# EAGLE library part OSD3358-512M-BCB (library Octavo-Systems OSD3552)
Octavo Systems LLC OSD335x Family SiP: 27mm x 27mm, 1.27mm pitch 400 pin BGA contains AM3358, 512MB DDR3, TPS65217, TL5209, 4KB EEPROM, 4GB eMMC, 24MHz oscillator, and passives. Commerical Temperature (case): 0C to 85C.
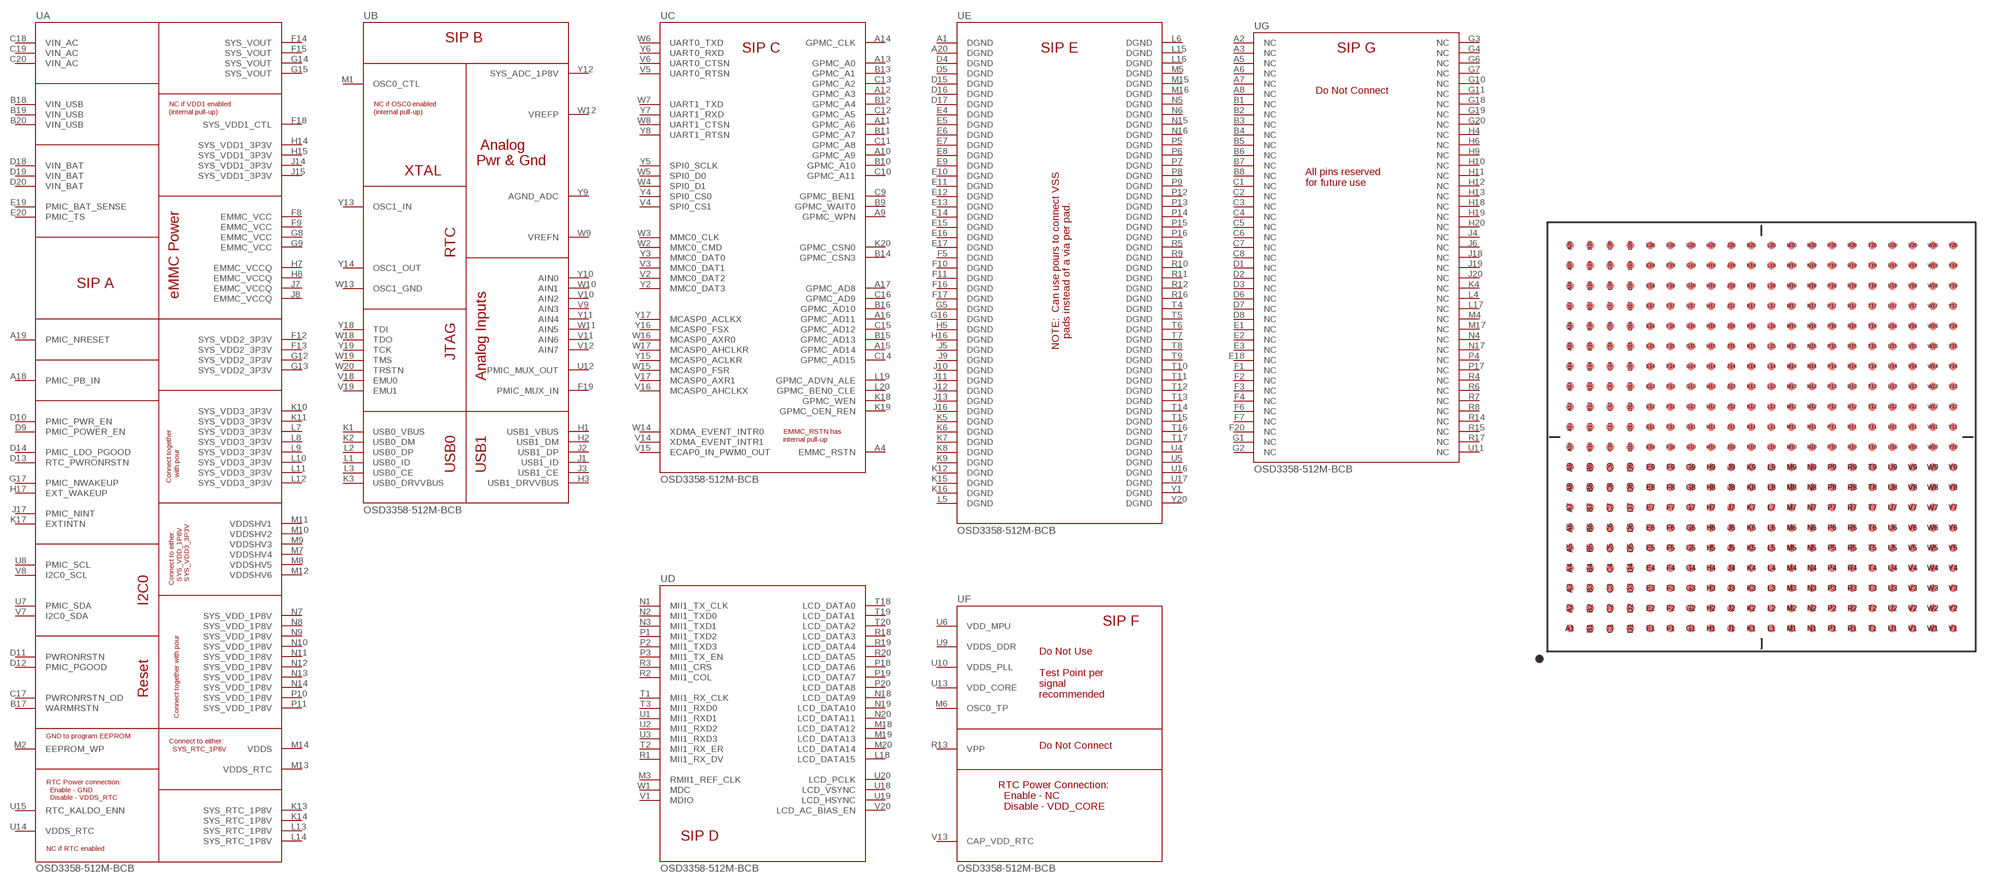
[diagram p2: symbol with the pads of OSD335X-BGA-400; footprint OSD335X-BGA-400]

Designator prefix U; gates A=OSD335X-CSIP-LOGICAL-A B=OSD335X-CSIP-LOGICAL-B C=OSD335X-CSIP-LOGICAL-C D=OSD335X-CSIP-LOGICAL-D F=OSD335X-CSIP-LOGICAL-F G=OSD335X-CSIP-LOGICAL-G E=OSD335X-CSIP-LOGICAL-E

## OSD3358-512M-BCB  [OSD335X-BGA-400]
A1  E:DGND
A2  G:NC
A3  G:NC
A4  C:EMMC_RSTN
A5  G:NC
A6  G:NC
A7  G:NC
A8  G:NC
A9  C:GPMC_WPN
A10  C:GPMC_A9
A11  C:GPMC_A6
A12  C:GPMC_A3
A13  C:GPMC_A0
A14  C:GPMC_CLK
A15  C:GPMC_AD14
A16  C:GPMC_AD11
A17  C:GPMC_AD8
A18  A:PMIC_PB_IN
A19  A:PMIC_NRESET
A20  E:DGND
B1  G:NC
B2  G:NC
B3  G:NC
B4  G:NC
B5  G:NC
B6  G:NC
B7  G:NC
B8  G:NC
B9  C:GPMC_WAIT0
B10  C:GPMC_A10
B11  C:GPMC_A7
B12  C:GPMC_A4
B13  C:GPMC_A1
B14  C:GPMC_CSN3
B15  C:GPMC_AD13
B16  C:GPMC_AD10
B17  A:WARMRSTN
B18  A:VIN_USB  pwr
B19  A:VIN_USB  pwr
B20  A:VIN_USB  pwr
C1  G:NC
C2  G:NC
C3  G:NC
C4  G:NC
C5  G:NC
C6  G:NC
C7  G:NC
C8  G:NC
C9  C:GPMC_BEN1
C10  C:GPMC_A11
C11  C:GPMC_A8
C12  C:GPMC_A5
C13  C:GPMC_A2
C14  C:GPMC_AD15
C15  C:GPMC_AD12
C16  C:GPMC_AD9
C17  A:PWRONRSTN_OD
C18  A:VIN_AC  pwr
C19  A:VIN_AC  pwr
C20  A:VIN_AC  pwr
D1  G:NC
D2  G:NC
D3  G:NC
D4  E:DGND
D5  E:DGND
D6  G:NC
D7  G:NC
D8  G:NC
D9  A:PMIC_POWER_EN  out
D10  A:PMIC_PWR_EN  in
D11  A:PWRONRSTN
D12  A:PMIC_PGOOD  out
D13  A:RTC_PWRONRSTN
D14  A:PMIC_LDO_PGOOD  out
D15  E:DGND
D16  E:DGND
D17  E:DGND
D18  A:VIN_BAT  pwr
D19  A:VIN_BAT  pwr
D20  A:VIN_BAT  pwr
E1  G:NC
E2  G:NC
E3  G:NC
E4  E:DGND
E5  E:DGND
E6  E:DGND
E7  E:DGND
E8  E:DGND
E9  E:DGND
E10  E:DGND
E11  E:DGND
E12  E:DGND
E13  E:DGND
E14  E:DGND
E15  E:DGND
E16  E:DGND
E17  E:DGND
E18  G:NC
E19  A:PMIC_BAT_SENSE
E20  A:PMIC_TS
F1  G:NC
F2  G:NC
F3  G:NC
F4  G:NC
F5  E:DGND
F6  G:NC
F7  G:NC
F8  A:EMMC_VCC
F9  A:EMMC_VCC
F10  E:DGND
F11  E:DGND
F12  A:SYS_VDD2_3P3V  pwr
F13  A:SYS_VDD2_3P3V  pwr
F14  A:SYS_VOUT  pwr
F15  A:SYS_VOUT  pwr
F16  E:DGND
F17  E:DGND
F18  A:SYS_VDD1_CTL
F19  B:PMIC_MUX_IN
F20  G:NC
G1  G:NC
G2  G:NC
G3  G:NC
G4  G:NC
G5  E:DGND
G6  G:NC
G7  G:NC
G8  A:EMMC_VCC
G9  A:EMMC_VCC
G10  G:NC
G11  G:NC
G12  A:SYS_VDD2_3P3V  pwr
G13  A:SYS_VDD2_3P3V  pwr
G14  A:SYS_VOUT  pwr
G15  A:SYS_VOUT  pwr
G16  E:DGND
G17  A:PMIC_NWAKEUP  out
G18  G:NC
G19  G:NC
G20  G:NC
H1  B:USB1_VBUS
H2  B:USB1_DM
H3  B:USB1_DRVVBUS
H4  G:NC
H5  E:DGND
H6  G:NC
H7  A:EMMC_VCCQ
H8  A:EMMC_VCCQ
H9  G:NC
H10  G:NC
H11  G:NC
H12  G:NC
H13  G:NC
H14  A:SYS_VDD1_3P3V  pwr
H15  A:SYS_VDD1_3P3V  pwr
H16  E:DGND
H17  A:EXT_WAKEUP
H18  G:NC
H19  G:NC
H20  G:NC
J1  B:USB1_ID
J2  B:USB1_DP
J3  B:USB1_CE
J4  G:NC
J5  E:DGND
J6  G:NC
J7  A:EMMC_VCCQ
J8  A:EMMC_VCCQ
J9  E:DGND
J10  E:DGND
J11  E:DGND
J12  E:DGND
J13  E:DGND
J14  A:SYS_VDD1_3P3V  pwr
J15  A:SYS_VDD1_3P3V  pwr
J16  E:DGND
J17  A:PMIC_NINT  out
J18  G:NC
J19  G:NC
J20  G:NC
K1  B:USB0_VBUS
K2  B:USB0_DM
K3  B:USB0_DRVVBUS
K4  G:NC
K5  E:DGND
K6  E:DGND
K7  E:DGND
K8  E:DGND
K9  E:DGND
K10  A:SYS_VDD3_3P3V  pwr
K11  A:SYS_VDD3_3P3V  pwr
K12  E:DGND
K13  A:SYS_RTC_1P8V  pwr
K14  A:SYS_RTC_1P8V  pwr
K15  E:DGND
K16  E:DGND
K17  A:EXTINTN
K18  C:GPMC_WEN
K19  C:GPMC_OEN_REN
K20  C:GPMC_CSN0
L1  B:USB0_ID
L2  B:USB0_DP
L3  B:USB0_CE
L4  G:NC
L5  E:DGND
L6  E:DGND
L7  A:SYS_VDD3_3P3V  pwr
L8  A:SYS_VDD3_3P3V  pwr
L9  A:SYS_VDD3_3P3V  pwr
L10  A:SYS_VDD3_3P3V  pwr
L11  A:SYS_VDD3_3P3V  pwr
L12  A:SYS_VDD3_3P3V  pwr
L13  A:SYS_RTC_1P8V  pwr
L14  A:SYS_RTC_1P8V  pwr
L15  E:DGND
L16  E:DGND
L17  G:NC
L18  D:LCD_DATA15
L19  C:GPMC_ADVN_ALE
L20  C:GPMC_BEN0_CLE
M1  B:OSC0_CTL
M2  A:EEPROM_WP
M3  D:RMII1_REF_CLK
M4  G:NC
M5  E:DGND
M6  F:OSC0_TP  out
M7  A:VDDSHV4  pwr
M8  A:VDDSHV5  pwr
M9  A:VDDSHV3  pwr
M10  A:VDDSHV2  pwr
M11  A:VDDSHV1  pwr
M12  A:VDDSHV6  pwr
M13  A:VDDS_RTC
M14  A:VDDS
M15  E:DGND
M16  E:DGND
M17  G:NC
M18  D:LCD_DATA12
M19  D:LCD_DATA13
M20  D:LCD_DATA14
N1  D:MII1_TX_CLK
N2  D:MII1_TXD0
N3  D:MII1_TXD1
N4  G:NC
N5  E:DGND
N6  E:DGND
N7  A:SYS_VDD_1P8V  pwr
N8  A:SYS_VDD_1P8V  pwr
N9  A:SYS_VDD_1P8V  pwr
N10  A:SYS_VDD_1P8V  pwr
N11  A:SYS_VDD_1P8V  pwr
N12  A:SYS_VDD_1P8V  pwr
N13  A:SYS_VDD_1P8V  pwr
N14  A:SYS_VDD_1P8V  pwr
N15  E:DGND
N16  E:DGND
N17  G:NC
N18  D:LCD_DATA9
N19  D:LCD_DATA10
N20  D:LCD_DATA11
P1  D:MII1_TXD2
P2  D:MII1_TXD3
P3  D:MII1_TX_EN
P4  G:NC
P5  E:DGND
P6  E:DGND
P7  E:DGND
P8  E:DGND
P9  E:DGND
P10  A:SYS_VDD_1P8V  pwr
P11  A:SYS_VDD_1P8V  pwr
P12  E:DGND
P13  E:DGND
P14  E:DGND
P15  E:DGND
P16  E:DGND
P17  G:NC
P18  D:LCD_DATA6
P19  D:LCD_DATA7
P20  D:LCD_DATA8
R1  D:MII1_RX_DV
R2  D:MII1_COL
R3  D:MII1_CRS
R4  G:NC
R5  E:DGND
R6  G:NC
R7  G:NC
R8  G:NC
R9  E:DGND
R10  E:DGND
R11  E:DGND
R12  E:DGND
R13  F:VPP
R14  G:NC
R15  G:NC
R16  E:DGND
R17  G:NC
R18  D:LCD_DATA3
R19  D:LCD_DATA4
R20  D:LCD_DATA5
T1  D:MII1_RX_CLK
T2  D:MII1_RX_ER
T3  D:MII1_RXD0
T4  E:DGND
T5  E:DGND
T6  E:DGND
T7  E:DGND
T8  E:DGND
T9  E:DGND
T10  E:DGND
T11  E:DGND
T12  E:DGND
T13  E:DGND
T14  E:DGND
T15  E:DGND
T16  E:DGND
T17  E:DGND
T18  D:LCD_DATA0
T19  D:LCD_DATA1
T20  D:LCD_DATA2
U1  D:MII1_RXD1
U2  D:MII1_RXD2
U3  D:MII1_RXD3
U4  E:DGND
U5  E:DGND
U6  F:VDD_MPU  out
U7  A:PMIC_SDA
U8  A:PMIC_SCL
U9  F:VDDS_DDR  out
U10  F:VDDS_PLL  out
U11  G:NC
U12  B:PMIC_MUX_OUT
U13  F:VDD_CORE  out
U14  A:VDDS_RTC
U15  A:RTC_KALDO_ENN
U16  E:DGND
U17  E:DGND
U18  D:LCD_VSYNC
U19  D:LCD_HSYNC
U20  D:LCD_PCLK
V1  D:MDIO
V2  C:MMC0_DAT2
V3  C:MMC0_DAT1
V4  C:SPI0_CS1
V5  C:UART0_RTSN
V6  C:UART0_CTSN
V7  A:I2C0_SDA
V8  A:I2C0_SCL
V9  B:AIN3
V10  B:AIN2
V11  B:AIN6
V12  B:AIN7
V13  F:CAP_VDD_RTC
V14  C:XDMA_EVENT_INTR1
V15  C:ECAP0_IN_PWM0_OUT
V16  C:MCASP0_AHCLKX
V17  C:MCASP0_AXR1
V18  B:EMU0
V19  B:EMU1
V20  D:LCD_AC_BIAS_EN
W1  D:MDC
W2  C:MMC0_CMD
W3  C:MMC0_CLK
W4  C:SPI0_D1
W5  C:SPI0_D0
W6  C:UART0_TXD
W7  C:UART1_TXD
W8  C:UART1_CTSN
W9  B:VREFN
W10  B:AIN1
W11  B:AIN5
W12  B:VREFP
W13  B:OSC1_GND
W14  C:XDMA_EVENT_INTR0
W15  C:MCASP0_FSR
W16  C:MCASP0_AXR0
W17  C:MCASP0_AHCLKR
W18  B:TDO
W19  B:TMS
W20  B:TRSTN
Y1  E:DGND
Y2  C:MMC0_DAT3
Y3  C:MMC0_DAT0
Y4  C:SPI0_CS0
Y5  C:SPI0_SCLK
Y6  C:UART0_RXD
Y7  C:UART1_RXD
Y8  C:UART1_RTSN
Y9  B:AGND_ADC
Y10  B:AIN0
Y11  B:AIN4
Y12  B:SYS_ADC_1P8V
Y13  B:OSC1_IN
Y14  B:OSC1_OUT
Y15  C:MCASP0_ACLKR
Y16  C:MCASP0_FSX
Y17  C:MCASP0_ACLKX
Y18  B:TDI
Y19  B:TCK
Y20  E:DGND

## Footprint OSD335X-BGA-400 (pad centres in mm)
smd 0.5 x 0.5: A1 -12.065,-12.065; A2 -12.065,-10.795; A3 -12.065,-9.525; A4 -12.065,-8.255; A5 -12.065,-6.985; A6 -12.065,-5.715; A7 -12.065,-4.445; A8 -12.065,-3.175; A9 -12.065,-1.905; A10 -12.065,-0.635; A11 -12.065,0.635; A12 -12.065,1.905; A13 -12.065,3.175; A14 -12.065,4.445; A15 -12.065,5.715; A16 -12.065,6.985; A17 -12.065,8.255; A18 -12.065,9.525; A19 -12.065,10.795; A20 -12.065,12.065; B1 -10.795,-12.065; B2 -10.795,-10.795; B3 -10.795,-9.525; B4 -10.795,-8.255; B5 -10.795,-6.985; B6 -10.795,-5.715; B7 -10.795,-4.445; B8 -10.795,-3.175; B9 -10.795,-1.905; B10 -10.795,-0.635; B11 -10.795,0.635; B12 -10.795,1.905; B13 -10.795,3.175; B14 -10.795,4.445; B15 -10.795,5.715; B16 -10.795,6.985; B17 -10.795,8.255; B18 -10.795,9.525; B19 -10.795,10.795; B20 -10.795,12.065; C1 -9.525,-12.065; C2 -9.525,-10.795; C3 -9.525,-9.525; C4 -9.525,-8.255; C5 -9.525,-6.985; C6 -9.525,-5.715; C7 -9.525,-4.445; C8 -9.525,-3.175; C9 -9.525,-1.905; C10 -9.525,-0.635; C11 -9.525,0.635; C12 -9.525,1.905; C13 -9.525,3.175; C14 -9.525,4.445; C15 -9.525,5.715; C16 -9.525,6.985; C17 -9.525,8.255; C18 -9.525,9.525; C19 -9.525,10.795; C20 -9.525,12.065; D1 -8.255,-12.065; D2 -8.255,-10.795; D3 -8.255,-9.525; D4 -8.255,-8.255; D5 -8.255,-6.985; D6 -8.255,-5.715; D7 -8.255,-4.445; D8 -8.255,-3.175; D9 -8.255,-1.905; D10 -8.255,-0.635; D11 -8.255,0.635; D12 -8.255,1.905; D13 -8.255,3.175; D14 -8.255,4.445; D15 -8.255,5.715; D16 -8.255,6.985; D17 -8.255,8.255; D18 -8.255,9.525; D19 -8.255,10.795; D20 -8.255,12.065; E1 -6.985,-12.065; E2 -6.985,-10.795; E3 -6.985,-9.525; E4 -6.985,-8.255; E5 -6.985,-6.985; E6 -6.985,-5.715; E7 -6.985,-4.445; E8 -6.985,-3.175; E9 -6.985,-1.905; E10 -6.985,-0.635; E11 -6.985,0.635; E12 -6.985,1.905; E13 -6.985,3.175; E14 -6.985,4.445; E15 -6.985,5.715; E16 -6.985,6.985; E17 -6.985,8.255; E18 -6.985,9.525; E19 -6.985,10.795; E20 -6.985,12.065; F1 -5.715,-12.065; F2 -5.715,-10.795; F3 -5.715,-9.525; F4 -5.715,-8.255; F5 -5.715,-6.985; F6 -5.715,-5.715; F7 -5.715,-4.445; F8 -5.715,-3.175; F9 -5.715,-1.905; F10 -5.715,-0.635; F11 -5.715,0.635; F12 -5.715,1.905; F13 -5.715,3.175; F14 -5.715,4.445; F15 -5.715,5.715; F16 -5.715,6.985; F17 -5.715,8.255; F18 -5.715,9.525; F19 -5.715,10.795; F20 -5.715,12.065; G1 -4.445,-12.065; G2 -4.445,-10.795; G3 -4.445,-9.525; G4 -4.445,-8.255; G5 -4.445,-6.985; G6 -4.445,-5.715; G7 -4.445,-4.445; G8 -4.445,-3.175; G9 -4.445,-1.905; G10 -4.445,-0.635; G11 -4.445,0.635; G12 -4.445,1.905; G13 -4.445,3.175; G14 -4.445,4.445; G15 -4.445,5.715; G16 -4.445,6.985; G17 -4.445,8.255; G18 -4.445,9.525; G19 -4.445,10.795; G20 -4.445,12.065; H1 -3.175,-12.065; H2 -3.175,-10.795; H3 -3.175,-9.525; H4 -3.175,-8.255; H5 -3.175,-6.985; H6 -3.175,-5.715; H7 -3.175,-4.445; H8 -3.175,-3.175; H9 -3.175,-1.905; H10 -3.175,-0.635; H11 -3.175,0.635; H12 -3.175,1.905; H13 -3.175,3.175; H14 -3.175,4.445; H15 -3.175,5.715; H16 -3.175,6.985; H17 -3.175,8.255; H18 -3.175,9.525; H19 -3.175,10.795; H20 -3.175,12.065; J1 -1.905,-12.065; J2 -1.905,-10.795; J3 -1.905,-9.525; J4 -1.905,-8.255; J5 -1.905,-6.985; J6 -1.905,-5.715; J7 -1.905,-4.445; J8 -1.905,-3.175; J9 -1.905,-1.905; J10 -1.905,-0.635; J11 -1.905,0.635; J12 -1.905,1.905; J13 -1.905,3.175; J14 -1.905,4.445; J15 -1.905,5.715; J16 -1.905,6.985; J17 -1.905,8.255; J18 -1.905,9.525; J19 -1.905,10.795; J20 -1.905,12.065; K1 -0.635,-12.065; K2 -0.635,-10.795; K3 -0.635,-9.525; K4 -0.635,-8.255; K5 -0.635,-6.985; K6 -0.635,-5.715; K7 -0.635,-4.445; K8 -0.635,-3.175; K9 -0.635,-1.905; K10 -0.635,-0.635; K11 -0.635,0.635; K12 -0.635,1.905; K13 -0.635,3.175; K14 -0.635,4.445; K15 -0.635,5.715; K16 -0.635,6.985; K17 -0.635,8.255; K18 -0.635,9.525; K19 -0.635,10.795; K20 -0.635,12.065; L1 0.635,-12.065; L2 0.635,-10.795; L3 0.635,-9.525; L4 0.635,-8.255; L5 0.635,-6.985; L6 0.635,-5.715; L7 0.635,-4.445; L8 0.635,-3.175; L9 0.635,-1.905; L10 0.635,-0.635; L11 0.635,0.635; L12 0.635,1.905; L13 0.635,3.175; L14 0.635,4.445; L15 0.635,5.715; L16 0.635,6.985; L17 0.635,8.255; L18 0.635,9.525; L19 0.635,10.795; L20 0.635,12.065; M1 1.905,-12.065; M2 1.905,-10.795; M3 1.905,-9.525; M4 1.905,-8.255; M5 1.905,-6.985; M6 1.905,-5.715; M7 1.905,-4.445; M8 1.905,-3.175; M9 1.905,-1.905; M10 1.905,-0.635; M11 1.905,0.635; M12 1.905,1.905; M13 1.905,3.175; M14 1.905,4.445; M15 1.905,5.715; M16 1.905,6.985; M17 1.905,8.255; M18 1.905,9.525; M19 1.905,10.795; M20 1.905,12.065; N1 3.175,-12.065; N2 3.175,-10.795; N3 3.175,-9.525; N4 3.175,-8.255; N5 3.175,-6.985; N6 3.175,-5.715; N7 3.175,-4.445; N8 3.175,-3.175; N9 3.175,-1.905; N10 3.175,-0.635; N11 3.175,0.635; N12 3.175,1.905; N13 3.175,3.175; N14 3.175,4.445; N15 3.175,5.715; N16 3.175,6.985; N17 3.175,8.255; N18 3.175,9.525; N19 3.175,10.795; N20 3.175,12.065; P1 4.445,-12.065; P2 4.445,-10.795; P3 4.445,-9.525; P4 4.445,-8.255; P5 4.445,-6.985; P6 4.445,-5.715; P7 4.445,-4.445; P8 4.445,-3.175; P9 4.445,-1.905; P10 4.445,-0.635; P11 4.445,0.635; P12 4.445,1.905; P13 4.445,3.175; P14 4.445,4.445; P15 4.445,5.715; P16 4.445,6.985; P17 4.445,8.255; P18 4.445,9.525; P19 4.445,10.795; P20 4.445,12.065; R1 5.715,-12.065; R2 5.715,-10.795; R3 5.715,-9.525; R4 5.715,-8.255; R5 5.715,-6.985; R6 5.715,-5.715; R7 5.715,-4.445; R8 5.715,-3.175; R9 5.715,-1.905; R10 5.715,-0.635; R11 5.715,0.635; R12 5.715,1.905; R13 5.715,3.175; R14 5.715,4.445; R15 5.715,5.715; R16 5.715,6.985; R17 5.715,8.255; R18 5.715,9.525; R19 5.715,10.795; R20 5.715,12.065; T1 6.985,-12.065; T2 6.985,-10.795; T3 6.985,-9.525; T4 6.985,-8.255; T5 6.985,-6.985; T6 6.985,-5.715; T7 6.985,-4.445; T8 6.985,-3.175; T9 6.985,-1.905; T10 6.985,-0.635; T11 6.985,0.635; T12 6.985,1.905; T13 6.985,3.175; T14 6.985,4.445; T15 6.985,5.715; T16 6.985,6.985; T17 6.985,8.255; T18 6.985,9.525; T19 6.985,10.795; T20 6.985,12.065; U1 8.255,-12.065; U2 8.255,-10.795; U3 8.255,-9.525; U4 8.255,-8.255; U5 8.255,-6.985; U6 8.255,-5.715; U7 8.255,-4.445; U8 8.255,-3.175; U9 8.255,-1.905; U10 8.255,-0.635; U11 8.255,0.635; U12 8.255,1.905; U13 8.255,3.175; U14 8.255,4.445; U15 8.255,5.715; U16 8.255,6.985; U17 8.255,8.255; U18 8.255,9.525; U19 8.255,10.795; U20 8.255,12.065; V1 9.525,-12.065; V2 9.525,-10.795; V3 9.525,-9.525; V4 9.525,-8.255; V5 9.525,-6.985; V6 9.525,-5.715; V7 9.525,-4.445; V8 9.525,-3.175; V9 9.525,-1.905; V10 9.525,-0.635; V11 9.525,0.635; V12 9.525,1.905; V13 9.525,3.175; V14 9.525,4.445; V15 9.525,5.715; V16 9.525,6.985; V17 9.525,8.255; V18 9.525,9.525; V19 9.525,10.795; V20 9.525,12.065; W1 10.795,-12.065; W2 10.795,-10.795; W3 10.795,-9.525; W4 10.795,-8.255; W5 10.795,-6.985; W6 10.795,-5.715; W7 10.795,-4.445; W8 10.795,-3.175; W9 10.795,-1.905; W10 10.795,-0.635; W11 10.795,0.635; W12 10.795,1.905; W13 10.795,3.175; W14 10.795,4.445; W15 10.795,5.715; W16 10.795,6.985; W17 10.795,8.255; W18 10.795,9.525; W19 10.795,10.795; W20 10.795,12.065; Y1 12.065,-12.065; Y2 12.065,-10.795; Y3 12.065,-9.525; Y4 12.065,-8.255; Y5 12.065,-6.985; Y6 12.065,-5.715; Y7 12.065,-4.445; Y8 12.065,-3.175; Y9 12.065,-1.905; Y10 12.065,-0.635; Y11 12.065,0.635; Y12 12.065,1.905; Y13 12.065,3.175; Y14 12.065,4.445; Y15 12.065,5.715; Y16 12.065,6.985; Y17 12.065,8.255; Y18 12.065,9.525; Y19 12.065,10.795; Y20 12.065,12.065